# EAGLE library part MAX202E (library SpecialIC)
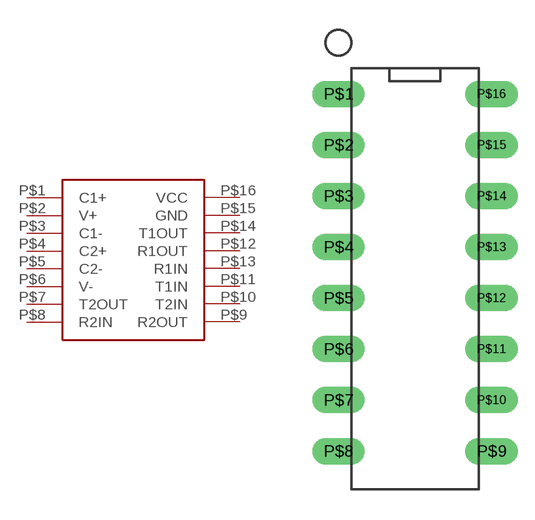
[diagram p4: symbol with the pads of DIL16; footprint DIL16]

Designator prefix -

## MAX202E (PLACE_PART: YES)  [DIL16]
P$1  C1+
P$2  V+
P$3  C1-
P$4  C2+
P$5  C2-
P$6  V-
P$7  T2OUT
P$8  R2IN
P$9  R2OUT
P$10  T2IN
P$11  T1IN
P$12  R1OUT
P$13  R1IN
P$14  T1OUT
P$15  GND
P$16  VCC

## Footprint DIL16 (pad centres in mm)
drill 0.8 long: P$1 -5.08,10.16; P$2 -5.08,7.62; P$3 -5.08,5.08; P$4 -5.08,2.54; P$5 -5.08,0; P$6 -5.08,-2.54; P$7 -5.08,-5.08; P$8 -5.08,-7.62; P$9 2.54,-7.62; P$10 2.54,-5.08; P$11 2.54,-2.54; P$12 2.54,0; P$13 2.54,2.54; P$14 2.54,5.08; P$15 2.54,7.62; P$16 2.54,10.16